# Altium schematic symbol library MP1584.SchLib: 1 symbol
Pins are listed as number, name and electrical type; pins without a type are passive.

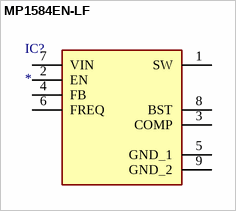
[diagram p0: symbol MP1584EN-LF]

## MP1584EN-LF
designator IC?
Integrated Circuit; Manufacturer_Name: Monolithic Power Systems (MPS); Manufacturer_Part_Number: MP1584EN-LF; Datasheet Link: https://componentsearchengine.com/Datasheets/1/MP1584EN-LF.pdf; Height: 1.7mm; Arrow Part Number: MP1584EN-LF; Mouser Part Number: 946-MP1584ENLF; Mouser Price/Stock: https://www.mouser.com/Search/Refine.aspx?Keyword=946-MP1584ENLF
footprint SOIC127P600X170-9N
pins: 1 SW, 2 EN, 3 COMP, 4 FB, 5 GND_1, 6 FREQ, 7 VIN, 8 BST, 9 GND_2